# Altium schematic symbol library Diode.SchLib: 1 symbol
Pins are listed as number, name and electrical type; pins without a type are passive.

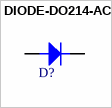
[diagram p0: symbol DIODE-DO214-AC]

## DIODE-DO214-AC
designator D?  (value not drawn)
footprint SOD123
pins: 1 A, 2 C